# Altium schematic symbol library Conn_2pin_2shield.SchLib: 1 symbol
Pins are listed as number, name and electrical type; pins without a type are passive.

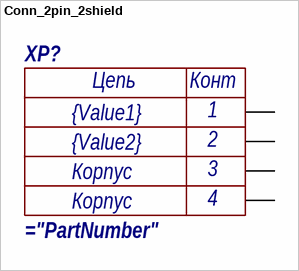
[diagram p0: symbol Conn_2pin_2shield]

## Conn_2pin_2shield
designator XP?  Value3: Корпус  Value2: {Value2}  Value1: {Value1}
Value4: Корпус
pins: 1, 2, 3, 4
text: Цепь; Конт